# EAGLE library part LPC1768 (library TinWhiskers)
Microprocessor: ARM Cortex-M3 Mfr: NXP Semiconductors; Package: LQFP-100; Datasheet: http://www.nxp.com/documents/data_sheet/LPC1769_68_67_66_65_64_63.pdf
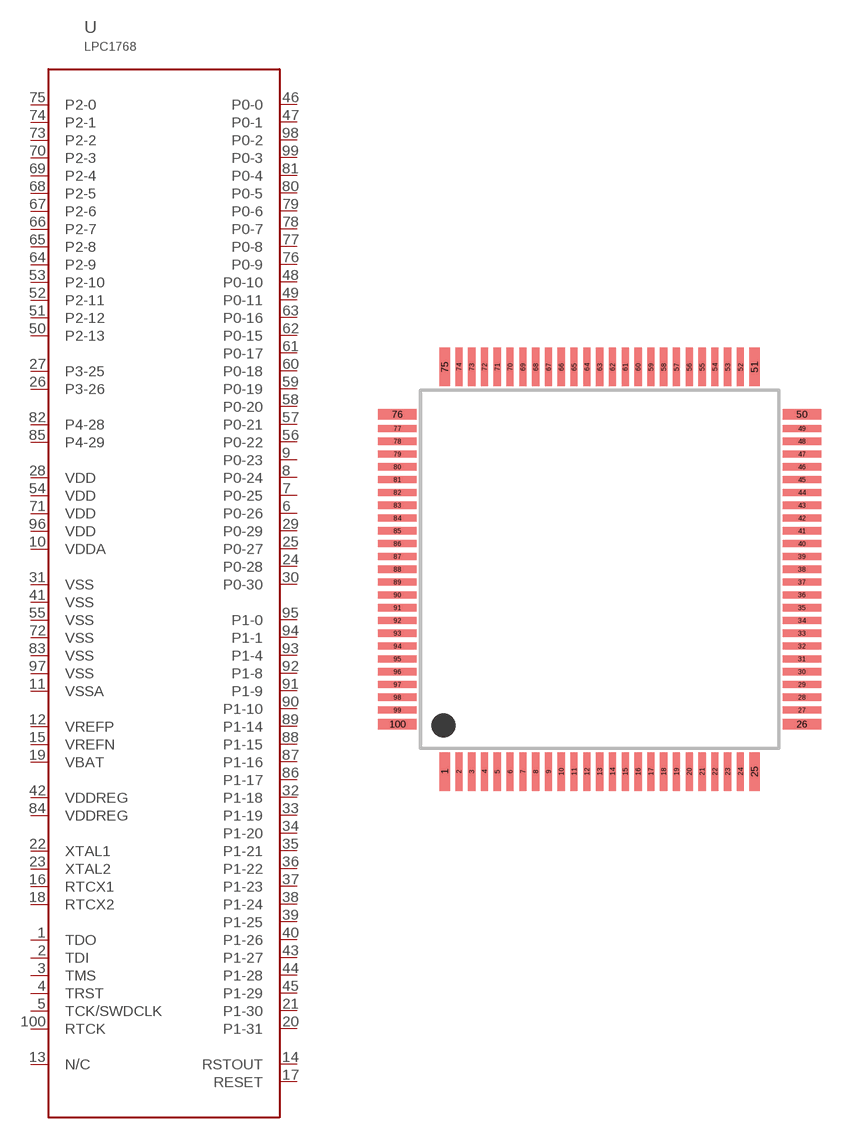
[diagram p10: symbol with the pads of 100-LQFP; footprint 100-LQFP]

Designator prefix U

## LPC1768LQFP-100  [100-LQFP]
1  TDO  out
2  TDI  in
3  TMS  in
4  TRST  in
5  TCK/SWDCLK  in
6  P0-26
7  P0-25
8  P0-24
9  P0-23
10  VDDA  pwr
11  VSSA  pwr
12  VREFP  pwr
13  N/C  nc
14  RSTOUT  out
15  VREFN  pwr
16  RTCX1  in
17  RESET  in
18  RTCX2  out
19  VBAT  pwr
20  P1-31
21  P1-30
22  XTAL1  in
23  XTAL2  out
24  P0-28
25  P0-27
26  P3-26
27  P3-25
28  VDD  pwr
29  P0-29
30  P0-30
31  VSS  pwr
32  P1-18
33  P1-19
34  P1-20
35  P1-21
36  P1-22
37  P1-23
38  P1-24
39  P1-25
40  P1-26
41  VSS  pwr
42  VDDREG  pwr
43  P1-27
44  P1-28
45  P1-29
46  P0-0
47  P0-1
48  P0-10
49  P0-11
50  P2-13
51  P2-12
52  P2-11
53  P2-10
54  VDD  pwr
55  VSS  pwr
56  P0-22
57  P0-21
58  P0-20
59  P0-19
60  P0-18
61  P0-17
62  P0-15
63  P0-16
64  P2-9
65  P2-8
66  P2-7
67  P2-6
68  P2-5
69  P2-4
70  P2-3
71  VDD  pwr
72  VSS  pwr
73  P2-2
74  P2-1
75  P2-0
76  P0-9
77  P0-8
78  P0-7
79  P0-6
80  P0-5
81  P0-4
82  P4-28
83  VSS  pwr
84  VDDREG  pwr
85  P4-29
86  P1-17
87  P1-16
88  P1-15
89  P1-14
90  P1-10
91  P1-9
92  P1-8
93  P1-4
94  P1-1
95  P1-0
96  VDD  pwr
97  VSS  pwr
98  P0-2
99  P0-3
100  RTCK  out

## Footprint 100-LQFP (pad centres in mm)
LQFP-100 (100-Pin Low-Profile Quad Package)
smd 0.4 x 1.5: 1 -6.05,-7.9; 25 6.05,-7.9; 51 6.05,7.9; 75 -6.05,7.9
smd 0.28 x 1.5: 2 -5.5,-7.9; 3 -5,-7.9; 4 -4.5,-7.9; 5 -4,-7.9; 6 -3.5,-7.9; 7 -3,-7.9; 8 -2.5,-7.9; 9 -2,-7.9; 10 -1.5,-7.9; 11 -1,-7.9; 12 -0.5,-7.9; 13 0,-7.9; 14 0.5,-7.9; 15 1,-7.9; 16 1.5,-7.9; 17 2,-7.9; 18 2.5,-7.9; 19 3,-7.9; 20 3.5,-7.9; 21 4,-7.9; 22 4.5,-7.9; 23 5,-7.9; 24 5.5,-7.9; 52 5.5,7.9; 53 5,7.9; 54 4.5,7.9; 55 4,7.9; 56 3.5,7.9; 57 3,7.9; 58 2.5,7.9; 59 2,7.9; 60 1.5,7.9; 61 1,7.9; 62 0.5,7.9; 63 0,7.9; 64 -0.5,7.9; 65 -1,7.9; 66 -1.5,7.9; 67 -2,7.9; 68 -2.5,7.9; 69 -3,7.9; 70 -3.5,7.9; 71 -4,7.9; 72 -4.5,7.9; 73 -5,7.9; 74 -5.5,7.9
smd 1.5 x 0.4: 26 7.9,-6.05; 50 7.9,6.05; 76 -7.9,6.05; 100 -7.9,-6.05
smd 1.5 x 0.28: 27 7.9,-5.5; 28 7.9,-5; 29 7.9,-4.5; 30 7.9,-4; 31 7.9,-3.5; 32 7.9,-3; 33 7.9,-2.5; 34 7.9,-2; 35 7.9,-1.5; 36 7.9,-1; 37 7.9,-0.5; 38 7.9,0; 39 7.9,0.5; 40 7.9,1; 41 7.9,1.5; 42 7.9,2; 43 7.9,2.5; 44 7.9,3; 45 7.9,3.5; 46 7.9,4; 47 7.9,4.5; 48 7.9,5; 49 7.9,5.5; 77 -7.9,5.5; 78 -7.9,5; 79 -7.9,4.5; 80 -7.9,4; 81 -7.9,3.5; 82 -7.9,3; 83 -7.9,2.5; 84 -7.9,2; 85 -7.9,1.5; 86 -7.9,1; 87 -7.9,0.5; 88 -7.9,0; 89 -7.9,-0.5; 90 -7.9,-1; 91 -7.9,-1.5; 92 -7.9,-2; 93 -7.9,-2.5; 94 -7.9,-3; 95 -7.9,-3.5; 96 -7.9,-4; 97 -7.9,-4.5; 98 -7.9,-5; 99 -7.9,-5.5